# Altium schematic symbol library SRV05-4.TCT.SchLib: 1 symbol
Pins are listed as number, name and electrical type; pins without a type are passive.

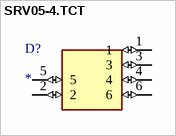
[diagram p0: symbol SRV05-4.TCT]

## SRV05-4.TCT
designator D?
17.5V Clamp 12A (8/20Âµs) Ipp Tvs Diode Surface Mount SOT-23-6; MF: Semtech; MP: SRV05-4.TCT; Package: SOT-23 Semtech; Price: None; Value: *; SnapEDA_Link: https://www.snapeda.com/parts/SRV05-4.TCT/Semtech+Corporation/view-part/?ref=snap; Availability: In Stock; Check_prices: https://www.snapeda.com/parts/SRV05-4.TCT/Semtech+Corporation/view-part/?ref=eda
footprint SOT95P280X145-6N
pins: 1 (io), 2 (io), 3 (io), 4 (io), 5 (io), 6 (io)